# Altium footprint library Zip.PcbLib: 15 footprints
Each footprint in its own frame and in the unit in brackets; x right, y up, seen from the top. Pads: shape width x height; smd on the part's side, far side on the other; paste and mask are expansions set on the pad; w line width, h text height; cw(c..) or ccw(c..) is an arc to the next point about the centre after c.
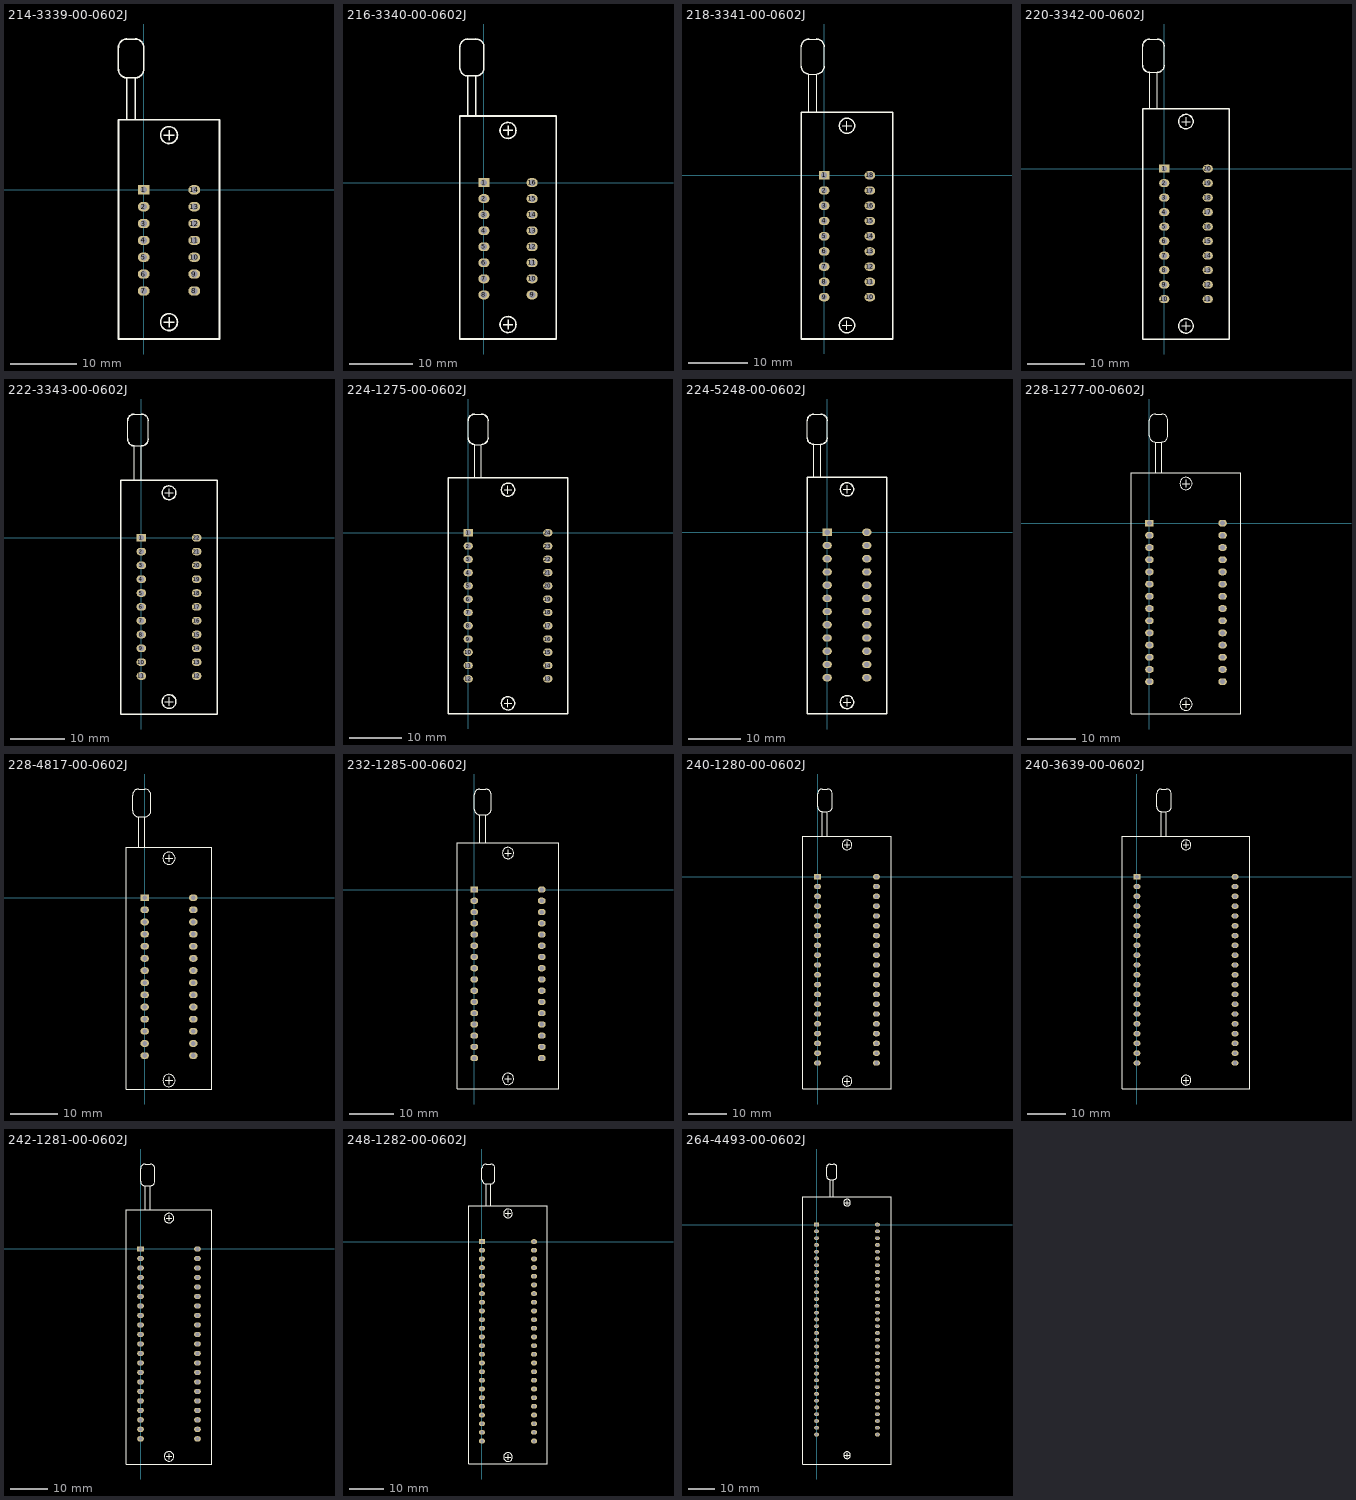
[diagram p0: the footprints below, top view; thin cyan lines are the x and y axes]

## 214-3339-00-0602J [mil]
pads (14):
  rect 70x55 hole 40: 1(0,0)
  oval 70x55 hole 40: 2(0,-100) 3(0,-200) 4(0,-300) 5(0,-400) 6(0,-500) 7(0,-600) 8(300,-600) 9(300,-500) 10(300,-400) 11(300,-300) 12(300,-200) 13(300,-100) 14(300,0)
Top Overlay:
  circle w10: c150,325 r50
  circle w10: c150,-785 r50
  lines w7.87: -150,715 -150,845 ; -100,415 -100,665 -50,665 -50,415 ; -100,895 -50,895 ; 0,715 0,845 ; 120,-785 180,-785 ; 120,325 180,325 ; 150,-815 150,-755 ; 150,295 150,355
  lines w10: -150,715 ccw(c-100,715) -100,665 ; -150,845 cw(c-100,845) -100,895 ; -50,665 ccw(c-50,715) 0,715 ; -50,895 cw(c-50,845) 0,845 ; -150,-885 450,-885 450,415 -150,415 -150,-885
3D body: height 309.97, standoff 160.03, extent -147.38,660 2.5,900
3D body: height 267.47, standoff 202.53, extent -107.37,410 -42.5,660
3D body: height 470, standoff 0, extent -151.57,-880 450,410.56

## 216-3340-00-0602J [mil]
pads (16):
  rect 70x55 hole 40: 1(0,0)
  oval 70x55 hole 40: 2(0,-100) 3(0,-200) 4(0,-300) 5(0,-400) 6(0,-500) 7(0,-600) 8(0,-700) 9(300,-700) 10(300,-600) 11(300,-500) 12(300,-400) 13(300,-300) 14(300,-200) 15(300,-100) 16(300,0)
Top Overlay:
  circle w10: c150,-885 r50
  circle w10: c150,325 r50
  lines w7.87: -150,715 -150,845 ; -100,415 -100,665 -50,665 -50,415 ; -100,895 -50,895 ; 0,715 0,845 ; 120,-885 180,-885 ; 120,325 180,325 ; 150,-915 150,-855 ; 150,295 150,355
  lines w10: -150,715 ccw(c-100,715) -100,665 ; -150,845 cw(c-100,845) -100,895 ; -50,665 ccw(c-50,715) 0,715 ; -50,895 cw(c-50,845) 0,845 ; -150,-975 -150,415 450,415 450,-975 -150,-975
3D body: height 470, standoff 0, extent -151.57,-975 450,410.56
3D body: height 267.47, standoff 202.53, extent -107.37,410 -42.5,660
3D body: height 309.97, standoff 160.03, extent -147.38,660 2.5,900

## 218-3341-00-0602J [mil]
pads (18):
  rect 70x55 hole 40: 1(0,0)
  oval 70x55 hole 40: 2(0,-100) 3(0,-200) 4(0,-300) 5(0,-400) 6(0,-500) 7(0,-600) 8(0,-700) 9(0,-800) 10(300,-800) 11(300,-700) 12(300,-600) 13(300,-500) 14(300,-400) 15(300,-300) 16(300,-200) 17(300,-100) 18(300,0)
Top Overlay:
  circle w10: c150,-985 r50
  circle w10: c150,325 r50
  lines w7.87: -150,715 -150,845 ; -100,415 -100,665 -50,665 -50,415 ; -100,895 -50,895 ; 0,715 0,845 ; 120,-985 180,-985 ; 120,325 180,325 ; 150,-1015 150,-955 ; 150,295 150,355
  lines w10: -150,715 ccw(c-100,715) -100,665 ; -150,845 cw(c-100,845) -100,895 ; -50,665 ccw(c-50,715) 0,715 ; -50,895 cw(c-50,845) 0,845 ; -150,-1075 -150,415 450,415 450,-1075 -150,-1075
3D body: height 470, standoff 0, extent -151.58,-1075 450,410.56
3D body: height 267.47, standoff 202.53, extent -107.37,410 -42.5,660
3D body: height 309.97, standoff 160.03, extent -147.38,660 2.5,900

## 220-3342-00-0602J [mil]
pads (20):
  rect 70x55 hole 40: 1(0,0)
  oval 70x55 hole 40: 2(0,-100) 3(0,-200) 4(0,-300) 5(0,-400) 6(0,-500) 7(0,-600) 8(0,-700) 9(0,-800) 10(0,-900) 11(300,-900) 12(300,-800) 13(300,-700) 14(300,-600) 15(300,-500) 16(300,-400) 17(300,-300) 18(300,-200) 19(300,-100) 20(300,0)
Top Overlay:
  circle w10: c150,-1085 r50
  circle w10: c150,325 r50
  lines w7.87: -150,715 -150,845 ; -100,415 -100,665 -50,665 -50,415 ; -100,895 -50,895 ; 0,715 0,845 ; 120,-1085 180,-1085 ; 120,325 180,325 ; 150,-1115 150,-1055 ; 150,295 150,355
  lines w10: -150,715 ccw(c-100,715) -100,665 ; -150,845 cw(c-100,845) -100,895 ; -50,665 ccw(c-50,715) 0,715 ; -50,895 cw(c-50,845) 0,845 ; -150,-1175 -150,415 450,415 450,-1175 -150,-1175
3D body: height 470, standoff 0, extent -151.58,-1175 450,410.56
3D body: height 267.47, standoff 202.53, extent -107.37,410 -42.5,660
3D body: height 309.97, standoff 160.03, extent -147.38,660 2.5,900

## 222-3343-00-0602J [mil]
pads (22):
  rect 70x55 hole 40: 1(0,0)
  oval 70x55 hole 40: 2(0,-100) 3(0,-200) 4(0,-300) 5(0,-400) 6(0,-500) 7(0,-600) 8(0,-700) 9(0,-800) 10(0,-900) 11(0,-1000) 12(400,-1000) 13(400,-900) 14(400,-800) 15(400,-700) 16(400,-600) 17(400,-500) 18(400,-400) 19(400,-300) 20(400,-200) 21(400,-100) 22(400,0)
Top Overlay:
  circle w10: c200,-1185 r50
  circle w10: c200,325 r50
  lines w7.87: -100,715 -100,845 ; -50,415 -50,665 0,665 0,415 ; -50,895 0,895 ; 50,715 50,845 ; 170,-1185 230,-1185 ; 170,325 230,325 ; 200,-1215 200,-1155 ; 200,295 200,355
  lines w10: -100,715 ccw(c-50,715) -50,665 ; -100,845 cw(c-50,845) -50,895 ; 0,665 ccw(c0,715) 50,715 ; 0,895 cw(c0,845) 50,845 ; -150,-1275 -150,415 550,415 550,-1275 -150,-1275
3D body: height 470, standoff 0, extent -150,-1275 550,410.56
3D body: height 267.47, standoff 202.53, extent -57.37,410 7.5,660
3D body: height 309.97, standoff 160.03, extent -97.38,660 52.5,900

## 224-1275-00-0602J [mil]
pads (24):
  rect 70x55 hole 40: 1(0,0)
  oval 70x55 hole 40: 2(0,-100) 3(0,-200) 4(0,-300) 5(0,-400) 6(0,-500) 7(0,-600) 8(0,-700) 9(0,-800) 10(0,-900) 11(0,-1000) 12(0,-1100) 13(600,-1100) 14(600,-1000) 15(600,-900) 16(600,-800) 17(600,-700) 18(600,-600) 19(600,-500) 20(600,-400) 21(600,-300) 22(600,-200) 23(600,-100) 24(600,0)
Top Overlay:
  circle w10: c300,325 r50
  circle w10: c300,-1285 r50
  lines w7.87: 0,715 0,845 ; 50,415 50,665 100,665 100,415 ; 50,895 100,895 ; 150,715 150,845 ; 270,-1285 330,-1285 ; 270,325 330,325 ; 300,-1315 300,-1255 ; 300,295 300,355
  lines w10: 0,715 ccw(c50,715) 50,665 ; 0,845 cw(c50,845) 50,895 ; 100,665 ccw(c100,715) 150,715 ; 100,895 cw(c100,845) 150,845 ; -150,-1365 750,-1365 750,415 -150,415 -150,-1365
3D body: height 309.97, standoff 160.03, extent 2.62,660 152.5,900
3D body: height 267.47, standoff 202.53, extent 42.63,410 107.5,660
3D body: height 470, standoff 0, extent -150,-1365 750,410.56

## 224-5248-00-0602J [mil]
pads (24):
  rect 70x55 hole 40: 1(0,0)
  oval 70x55 hole 40: 2(0,-100) 3(0,-200) 4(0,-300) 5(0,-400) 6(0,-500) 7(0,-600) 8(0,-700) 9(0,-800) 10(0,-900) 11(0,-1000) 12(0,-1100) 13(300,-1100) 14(300,-1000) 15(300,-900) 16(300,-800) 17(300,-700) 18(300,-600) 19(300,-500) 20(300,-400) 21(300,-300) 22(300,-200) 23(300,-100) 24(300,0)
Top Overlay:
  circle w10: c150,-1285 r50
  circle w10: c150,325 r50
  lines w7.87: -150,715 -150,845 ; -100,415 -100,665 -50,665 -50,415 ; -100,895 -50,895 ; 0,715 0,845 ; 120,-1285 180,-1285 ; 120,325 180,325 ; 150,-1315 150,-1255 ; 150,295 150,355
  lines w10: -150,715 ccw(c-100,715) -100,665 ; -150,845 cw(c-100,845) -100,895 ; -50,665 ccw(c-50,715) 0,715 ; -50,895 cw(c-50,845) 0,845 ; -150,-1375 -150,415 450,415 450,-1375 -150,-1375
3D body: height 470, standoff 0, extent -150,-1375 450,410.56
3D body: height 267.47, standoff 202.53, extent -107.37,410 -42.5,660
3D body: height 309.97, standoff 160.03, extent -147.38,660 2.5,900

## 228-1277-00-0602J [mil]
pads (28):
  rect 70x55 hole 40: 1(0,0)
  oval 70x55 hole 40: 2(0,-100) 3(0,-200) 4(0,-300) 5(0,-400) 6(0,-500) 7(0,-600) 8(0,-700) 9(0,-800) 10(0,-900) 11(0,-1000) 12(0,-1100) 13(0,-1200) 14(0,-1300) 15(600,-1300) 16(600,-1200) 17(600,-1100) 18(600,-1000) 19(600,-900) 20(600,-800) 21(600,-700) 22(600,-600) 23(600,-500) 24(600,-400) 25(600,-300) 26(600,-200) 27(600,-100) 28(600,0)
Top Overlay:
  circle w10: c300,325 r50
  circle w10: c300,-1485 r50
  lines w7.87: 0,715 0,845 ; 50,415 50,665 100,665 100,415 ; 50,895 100,895 ; 150,715 150,845 ; 270,-1485 330,-1485 ; 270,325 330,325 ; 300,-1515 300,-1455 ; 300,295 300,355
  lines w10: 0,715 ccw(c50,715) 50,665 ; 0,845 cw(c50,845) 50,895 ; 100,665 ccw(c100,715) 150,715 ; 100,895 cw(c100,845) 150,845 ; -150,-1565 750,-1565 750,415 -150,415 -150,-1565
3D body: height 309.97, standoff 160.03, extent 2.62,660 152.5,900
3D body: height 267.47, standoff 202.53, extent 42.63,410 107.5,660
3D body: height 470, standoff 0, extent -150,-1565 750,410.56

## 228-4817-00-0602J [mil]
pads (28):
  rect 70x55 hole 40: 1(0,0)
  oval 70x55 hole 40: 2(0,-100) 3(0,-200) 4(0,-300) 5(0,-400) 6(0,-500) 7(0,-600) 8(0,-700) 9(0,-800) 10(0,-900) 11(0,-1000) 12(0,-1100) 13(0,-1200) 14(0,-1300) 15(400,-1300) 16(400,-1200) 17(400,-1100) 18(400,-1000) 19(400,-900) 20(400,-800) 21(400,-700) 22(400,-600) 23(400,-500) 24(400,-400) 25(400,-300) 26(400,-200) 27(400,-100) 28(400,0)
Top Overlay:
  circle w10: c200,-1505 r50
  circle w10: c200,325 r50
  lines w7.87: -100,715 -100,845 ; -50,415 -50,665 0,665 0,415 ; -50,895 0,895 ; 50,715 50,845 ; 170,-1505 230,-1505 ; 170,325 230,325 ; 200,-1535 200,-1475 ; 200,295 200,355
  lines w10: -100,715 ccw(c-50,715) -50,665 ; -100,845 cw(c-50,845) -50,895 ; 0,665 ccw(c0,715) 50,715 ; 0,895 cw(c0,845) 50,845 ; -150,-1575 -150,415 550,415 550,-1575 -150,-1575
3D body: height 470, standoff 0, extent -150,-1575 550,410.56
3D body: height 267.47, standoff 202.53, extent -57.37,410 7.5,660
3D body: height 309.97, standoff 160.03, extent -97.38,660 52.5,900

## 232-1285-00-0602J [mil]
pads (32):
  rect 70x55 hole 40: 1(0,0)
  oval 70x55 hole 40: 2(0,-100) 3(0,-200) 4(0,-300) 5(0,-400) 6(0,-500) 7(0,-600) 8(0,-700) 9(0,-800) 10(0,-900) 11(0,-1000) 12(0,-1100) 13(0,-1200) 14(0,-1300) 15(0,-1400) 16(0,-1500) 17(600,-1500) 18(600,-1400) 19(600,-1300) 20(600,-1200) 21(600,-1100) 22(600,-1000) 23(600,-900) 24(600,-800) 25(600,-700) 26(600,-600) 27(600,-500) 28(600,-400) 29(600,-300) 30(600,-200) 31(600,-100) 32(600,0)
Top Overlay:
  circle w10: c300,-1685 r50
  circle w10: c300,325 r50
  lines w7.87: 0,715 0,845 ; 50,415 50,665 100,665 100,415 ; 50,895 100,895 ; 150,715 150,845 ; 270,-1685 330,-1685 ; 270,325 330,325 ; 300,-1715 300,-1655 ; 300,295 300,355
  lines w10: 0,715 ccw(c50,715) 50,665 ; 0,845 cw(c50,845) 50,895 ; 100,665 ccw(c100,715) 150,715 ; 100,895 cw(c100,845) 150,845 ; -150,-1775 -150,415 750,415 750,-1775 -150,-1775
3D body: height 470, standoff 0, extent -150,-1775 750,410.56
3D body: height 267.47, standoff 202.53, extent 42.63,410 107.5,660
3D body: height 309.97, standoff 160.03, extent 2.62,660 152.5,900

## 240-1280-00-0602J [mil]
pads (40):
  rect 70x55 hole 40: 1(0,0)
  oval 70x55 hole 40: 2(0,-100) 3(0,-200) 4(0,-300) 5(0,-400) 6(0,-500) 7(0,-600) 8(0,-700) 9(0,-800) 10(0,-900) 11(0,-1000) 12(0,-1100) 13(0,-1200) 14(0,-1300) 15(0,-1400) 16(0,-1500) 17(0,-1600) 18(0,-1700) 19(0,-1800) 20(0,-1900) 21(600,-1900) 22(600,-1800) 23(600,-1700) 24(600,-1600) 25(600,-1500) 26(600,-1400) 27(600,-1300) 28(600,-1200) 29(600,-1100) 30(600,-1000) 31(600,-900) 32(600,-800) 33(600,-700) 34(600,-600) 35(600,-500) 36(600,-400) 37(600,-300) 38(600,-200) 39(600,-100) 40(600,0)
Top Overlay:
  circle w10: c300,325 r50
  circle w10: c300,-2085 r50
  lines w7.87: 0,715 0,845 ; 50,415 50,665 100,665 100,415 ; 50,895 100,895 ; 150,715 150,845 ; 270,-2085 330,-2085 ; 270,325 330,325 ; 300,-2115 300,-2055 ; 300,295 300,355
  lines w10: 0,715 ccw(c50,715) 50,665 ; 0,845 cw(c50,845) 50,895 ; 100,665 ccw(c100,715) 150,715 ; 100,895 cw(c100,845) 150,845 ; -150,-2165 750,-2165 750,415 -150,415 -150,-2165
3D body: height 309.97, standoff 160.03, extent 2.62,660 152.5,900
3D body: height 267.47, standoff 202.53, extent 42.63,410 107.5,660
3D body: height 470, standoff 0, extent -150,-2165 750,410.56

## 240-3639-00-0602J [mil]
pads (40):
  rect 70x55 hole 40: 1(0,0)
  oval 70x55 hole 40: 2(0,-100) 3(0,-200) 4(0,-300) 5(0,-400) 6(0,-500) 7(0,-600) 8(0,-700) 9(0,-800) 10(0,-900) 11(0,-1000) 12(0,-1100) 13(0,-1200) 14(0,-1300) 15(0,-1400) 16(0,-1500) 17(0,-1600) 18(0,-1700) 19(0,-1800) 20(0,-1900) 21(1000,-1900) 22(1000,-1800) 23(1000,-1700) 24(1000,-1600) 25(1000,-1500) 26(1000,-1400) 27(1000,-1300) 28(1000,-1200) 29(1000,-1100) 30(1000,-1000) 31(1000,-900) 32(1000,-800) 33(1000,-700) 34(1000,-600) 35(1000,-500) 36(1000,-400) 37(1000,-300) 38(1000,-200) 39(1000,-100) 40(1000,0)
Top Overlay:
  circle w10: c500,325 r50
  circle w10: c500,-2075 r50
  lines w7.87: 200,715 200,845 ; 250,415 250,665 300,665 300,415 ; 250,895 300,895 ; 350,715 350,845 ; 470,-2075 530,-2075 ; 470,325 530,325 ; 500,-2105 500,-2045 ; 500,295 500,355
  lines w10: 200,715 ccw(c250,715) 250,665 ; 200,845 cw(c250,845) 250,895 ; 300,665 ccw(c300,715) 350,715 ; 300,895 cw(c300,845) 350,845 ; -150,-2165 1150,-2165 1150,415 -150,415 -150,-2165
3D body: height 309.97, standoff 160.03, extent 202.62,660 352.5,900
3D body: height 267.47, standoff 202.53, extent 242.63,410 307.5,660
3D body: height 470, standoff 0, extent -150,-2165 1150,410.56

## 242-1281-00-0602J [mil]
pads (42):
  rect 70x55 hole 40: 1(0,0)
  oval 70x55 hole 40: 2(0,-100) 3(0,-200) 4(0,-300) 5(0,-400) 6(0,-500) 7(0,-600) 8(0,-700) 9(0,-800) 10(0,-900) 11(0,-1000) 12(0,-1100) 13(0,-1200) 14(0,-1300) 15(0,-1400) 16(0,-1500) 17(0,-1600) 18(0,-1700) 19(0,-1800) 20(0,-1900) 21(0,-2000) 22(600,-2000) 23(600,-1900) 24(600,-1800) 25(600,-1700) 26(600,-1600) 27(600,-1500) 28(600,-1400) 29(600,-1300) 30(600,-1200) 31(600,-1100) 32(600,-1000) 33(600,-900) 34(600,-800) 35(600,-700) 36(600,-600) 37(600,-500) 38(600,-400) 39(600,-300) 40(600,-200) 41(600,-100) 42(600,0)
Top Overlay:
  circle w10: c300,325 r50
  circle w10: c300,-2185 r50
  lines w7.87: 0,715 0,845 ; 50,415 50,665 100,665 100,415 ; 50,895 100,895 ; 150,715 150,845 ; 270,-2185 330,-2185 ; 270,325 330,325 ; 300,-2215 300,-2155 ; 300,295 300,355
  lines w10: 0,715 ccw(c50,715) 50,665 ; 0,845 cw(c50,845) 50,895 ; 100,665 ccw(c100,715) 150,715 ; 100,895 cw(c100,845) 150,845 ; -150,-2265 750,-2265 750,415 -150,415 -150,-2265
3D body: height 309.97, standoff 160.03, extent 2.62,660 152.5,900
3D body: height 267.47, standoff 202.53, extent 42.63,410 107.5,660
3D body: height 470, standoff 0, extent -150,-2265 750,410.56

## 248-1282-00-0602J [mil]
pads (48):
  rect 70x55 hole 40: 1(0,0)
  oval 70x55 hole 40: 2(0,-100) 3(0,-200) 4(0,-300) 5(0,-400) 6(0,-500) 7(0,-600) 8(0,-700) 9(0,-800) 10(0,-900) 11(0,-1000) 12(0,-1100) 13(0,-1200) 14(0,-1300) 15(0,-1400) 16(0,-1500) 17(0,-1600) 18(0,-1700) 19(0,-1800) 20(0,-1900) 21(0,-2000) 22(0,-2100) 23(0,-2200) 24(0,-2300) 25(600,-2300) 26(600,-2200) 27(600,-2100) 28(600,-2000) 29(600,-1900) 30(600,-1800) 31(600,-1700) 32(600,-1600) 33(600,-1500) 34(600,-1400) 35(600,-1300) 36(600,-1200) 37(600,-1100) 38(600,-1000) 39(600,-900) 40(600,-800) 41(600,-700) 42(600,-600) 43(600,-500) 44(600,-400) 45(600,-300) 46(600,-200) 47(600,-100) 48(600,0)
Top Overlay:
  circle w10: c300,-2485 r50
  circle w10: c300,325 r50
  lines w7.87: 0,715 0,845 ; 50,415 50,665 100,665 100,415 ; 50,895 100,895 ; 150,715 150,845 ; 270,-2485 330,-2485 ; 270,325 330,325 ; 300,-2515 300,-2455 ; 300,295 300,355
  lines w10: 0,715 ccw(c50,715) 50,665 ; 0,845 cw(c50,845) 50,895 ; 100,665 ccw(c100,715) 150,715 ; 100,895 cw(c100,845) 150,845 ; -150,-2565 -150,415 750,415 750,-2565 -150,-2565
3D body: height 470, standoff 0, extent -150.01,-2565 750,410.56
3D body: height 267.47, standoff 202.53, extent 42.63,410 107.5,660
3D body: height 309.97, standoff 160.03, extent 2.62,660 152.5,900

## 264-4493-00-0602J [mil]
pads (64):
  rect 70x55 hole 40: 1(0,0)
  oval 70x55 hole 40: 2(0,-100) 3(0,-200) 4(0,-300) 5(0,-400) 6(0,-500) 7(0,-600) 8(0,-700) 9(0,-800) 10(0,-900) 11(0,-1000) 12(0,-1100) 13(0,-1200) 14(0,-1300) 15(0,-1400) 16(0,-1500) 17(0,-1600) 18(0,-1700) 19(0,-1800) 20(0,-1900) 21(0,-2000) 22(0,-2100) 23(0,-2200) 24(0,-2300) 25(0,-2400) 26(0,-2500) 27(0,-2600) 28(0,-2700) 29(0,-2800) 30(0,-2900) 31(0,-3000) 32(0,-3100) 33(900,-3100) 34(900,-3000) 35(900,-2900) 36(900,-2800) 37(900,-2700) 38(900,-2600) 39(900,-2500) 40(900,-2400) 41(900,-2300) 42(900,-2200) 43(900,-2100) 44(900,-2000) 45(900,-1900) 46(900,-1800) 47(900,-1700) 48(900,-1600) 49(900,-1500) 50(900,-1400) 51(900,-1300) 52(900,-1200) 53(900,-1100) 54(900,-1000) 55(900,-900) 56(900,-800) 57(900,-700) 58(900,-600) 59(900,-500) 60(900,-400) 61(900,-300) 62(900,-200) 63(900,-100) 64(900,0)
Top Overlay:
  circle w10: c450,325 r50
  circle w10: c450,-3405 r50
  lines w7.87: 150,715 150,845 ; 200,415 200,665 250,665 250,415 ; 200,895 250,895 ; 300,715 300,845 ; 420,-3405 480,-3405 ; 420,325 480,325 ; 450,-3435 450,-3375 ; 450,295 450,355
  lines w10: 150,715 ccw(c200,715) 200,665 ; 150,845 cw(c200,845) 200,895 ; 250,665 ccw(c250,715) 300,715 ; 250,895 cw(c250,845) 300,845 ; -200,-3535 1100,-3535 1100,415 -200,415 -200,-3535
3D body: height 309.97, standoff 160.03, extent 152.62,660 302.5,900
3D body: height 267.47, standoff 202.53, extent 192.63,410 257.5,660
3D body: height 470, standoff 0, extent -200,-3535 1100.01,410.56